# Altium footprint library SCA320.PcbLib: 1 footprints
Each footprint in its own frame and in the unit in brackets; x right, y up, seen from the top. Pads: shape width x height; smd on the part's side, far side on the other; paste and mask are expansions set on the pad; w line width, h text height; cw(c..) or ccw(c..) is an arc to the next point about the centre after c.
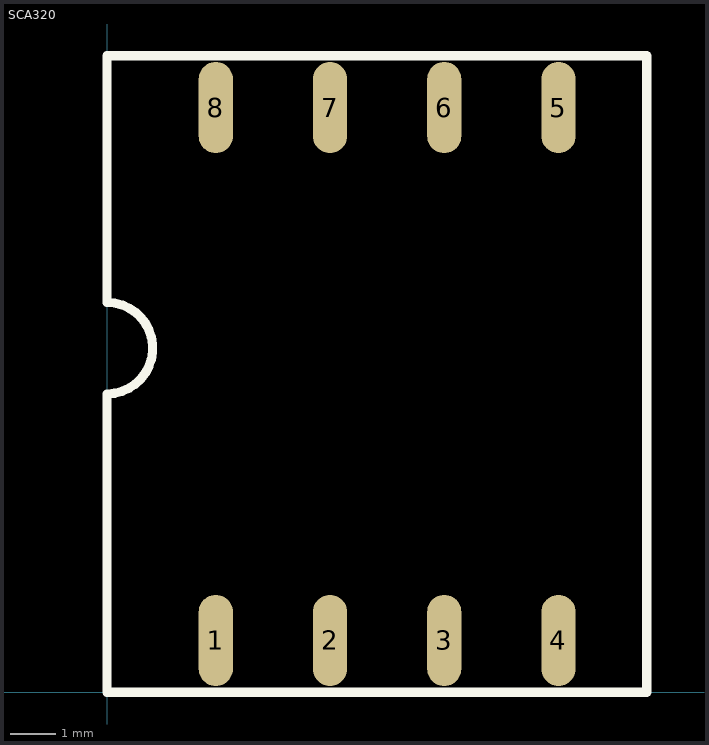
[diagram p0: the footprint, top view; thin cyan lines are the x and y axes]

## SCA320 [mil]
pads (8):
  oval 30x80 smd: 1(95.22,45.28) 2(195.22,45.28) 3(295.22,45.28) 4(395.22,45.28) 5(395.22,511.81) 6(295.22,511.81) 7(195.22,511.81) 8(95.22,511.81)
TopOverlay:
  lines w8: 0,0 472.44,0 472.44,557.09 0,557.09 0,341.18 cw(c0,301.18) 0,261.18 0,0
  text "." at -46.78,18.28 h75